# Altium integrated library TI Power Management PCMCIA and USB.IntLib: 328 symbols (part 14 of 14)
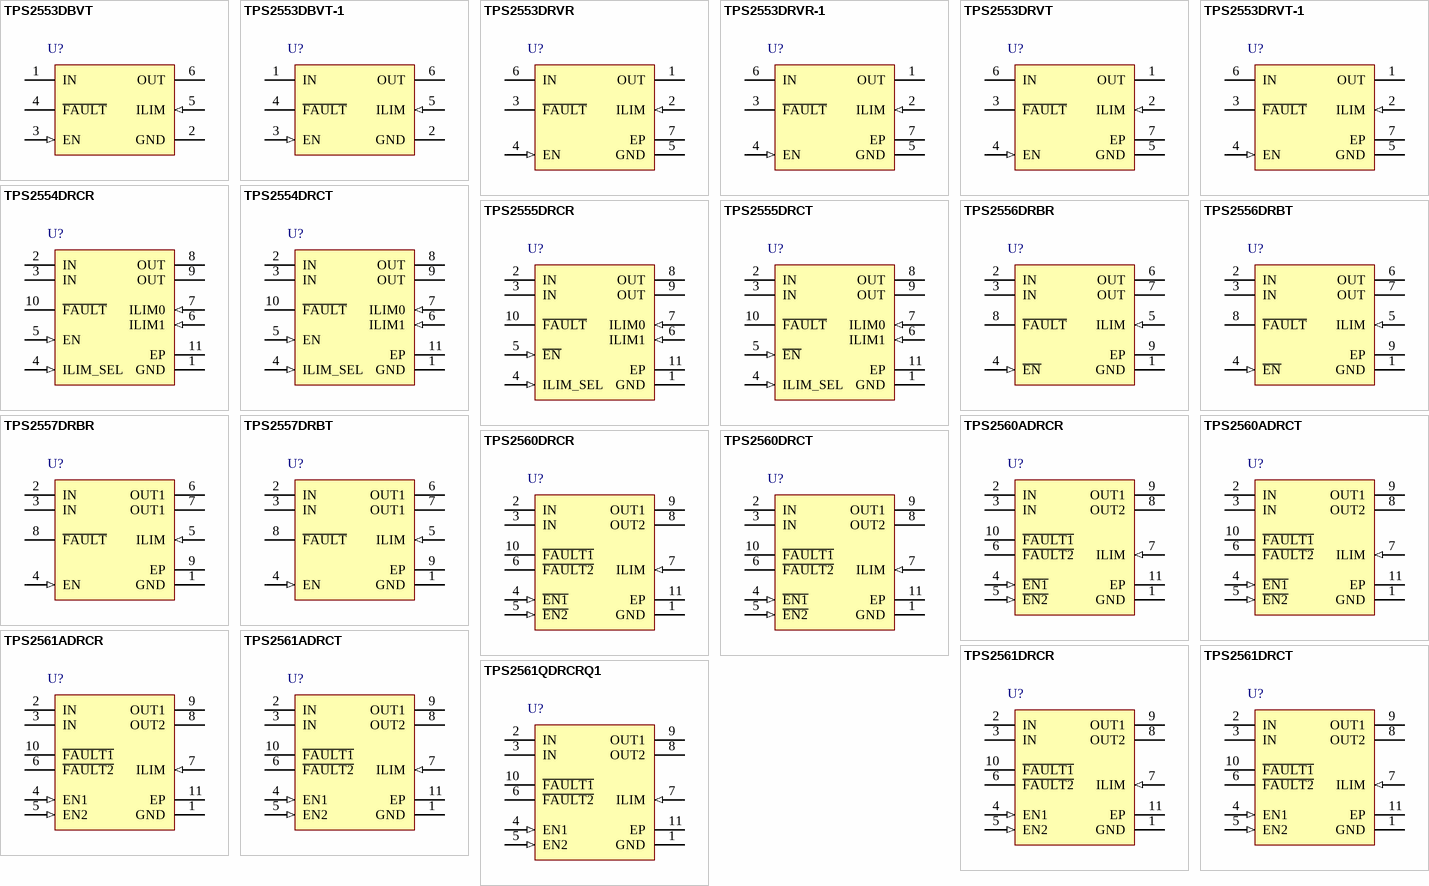
[diagram p23: symbols TPS2553DBVT to TPS2561QDRCRQ1]

## TPS2553DRVT
designator U?
Adjustable, Active High, Constant-Current, Current-Limited Power-Distribution Switch, 0.075 to 1.7 A Current Limit, -40 to 85 degC, 6-pin SON (DRV), Green (RoHS & no Sb/Br); Manufacturer: Texas Instruments; PartNumber: TPS2553DRVT; Continuous Current(Max)(A): 1.5; Current Limit Accuracy @ 1A: +/-7.5% (925mA min / 1075mA max); Number of Switches: 1; Rating: Catalog; rDS(on) per FET(Typ)(mOhms): 100/DRV, 85/DBV; Vin(Max)(V): 6.5; Vin(Min)(V): 2.5; DatasheetVersion: SLVS841E; PackageVersion: revE, Oct-2010; PackageReference: DRV6-1600X1000TP; PackageDescription: 6-Pin Plastic Small Outline No-Lead, 2 x 2 x 0.8 mm Body, 0.65 mm Pitch, Exposed Pad; Supplier 1: Digi-Key; Supplier Part Number 1: 296-23999-2-ND; Supplier 2: Digi-Key; Supplier Part Number 2: 296-23999-1-ND; Supplier 3: Digi-Key; Supplier Part Number 3: 296-23999-6-ND; Supplier 4: Farnell; Supplier Part Number 4: 1694427; Supplier 5: Newark; Supplier Part Number 5: 40P3872; Supplier 6: Mouser; Supplier Part Number 6: 595-TPS2553DRVT; Current Limit Topology: Constant-Current; Current Limit(A): 0.075 to 1.7; Eco-Plan: Green (RoHS & no Sb/Br); Enable: Active High; Mounting Technology: Surface Mount; ComponentLink1Description: Datasheet; ComponentLink1URL: http://www.ti.com/general/docs/lit/getliterature.tsp?genericPartNumber=TPS2553&fileType=pdf
footprint DRV6-1600X1000TP (SON, 6-Leads, Body 2x2mm, Pitch 0.65mm, Thermal Pad 1.6x1mm, TI Recommended)
pins: 1 OUT (power) "Power-switch output", 2 ILIM (in) "External resistor used to set current-limit threshold; recommended 15 k ohm =< RILIM =< 232 k ohm.", 3 ~{FAULT} (hiz) "Active-low open-drain output, asserted during overcurrent, overtemperature, or reverse-voltage conditions.", 4 EN (in) "Enable input, logic high turns on power switch", 5 GND (power) "Ground connection; connect externally to PowerPAD", 6 IN (power) "Input voltage; connect a 0.1 uF or greater ceramic capacitor from IN to GND as close to the IC as possible.", 7 EP (power) "Internally connected to GND; used to heat-sink the part to the circuit board traces. Connect PowerPAD to GND pin externally."

## TPS2553DRVT-1
designator U?
Adjustable, Active High, Latch-off, Current-Limited Power-Distribution Switch, 0.075 to 1.7 A Current Limit, -40 to 85 degC, 6-pin SON (DRV), Green (RoHS & no Sb/Br); Manufacturer: Texas Instruments; PartNumber: TPS2553DRVT-1; Continuous Current(Max)(A): 1.5; Current Limit Accuracy @ 1A: +/-7.5% (925mA min / 1075mA max); Number of Switches: 1; Rating: Catalog; rDS(on) per FET(Typ)(mOhms): 100/DRV, 85/DBV; Vin(Max)(V): 6.5; Vin(Min)(V): 2.5; DatasheetVersion: SLVS841E; PackageVersion: revE, Oct-2010; PackageReference: DRV6-1600X1000TP; PackageDescription: 6-Pin Plastic Small Outline No-Lead, 2 x 2 x 0.8 mm Body, 0.65 mm Pitch, Exposed Pad; Supplier 1: Digi-Key; Supplier Part Number 1: 296-24000-2-ND; Supplier 2: Digi-Key; Supplier Part Number 2: 296-24000-1-ND; Supplier 3: Digi-Key; Supplier Part Number 3: 296-24000-6-ND; Supplier 4: Newark; Supplier Part Number 4: 40P3873; Supplier 5: Mouser; Supplier Part Number 5: 595-TPS2553DRVT-1; Current Limit Topology: Latch-off; Current Limit(A): 0.075 to 1.7; Eco-Plan: Green (RoHS & no Sb/Br); Enable: Active High; Mounting Technology: Surface Mount; ComponentLink1Description: Datasheet; ComponentLink1URL: http://www.ti.com/general/docs/lit/getliterature.tsp?genericPartNumber=TPS2553-1&fileType=pdf
footprint DRV6-1600X1000TP (SON, 6-Leads, Body 2x2mm, Pitch 0.65mm, Thermal Pad 1.6x1mm, TI Recommended)
pins: 1 OUT (power) "Power-switch output", 2 ILIM (in) "External resistor used to set current-limit threshold; recommended 15 k ohm =< RILIM =< 232 k ohm.", 3 ~{FAULT} (hiz) "Active-low open-drain output, asserted during overcurrent, overtemperature, or reverse-voltage conditions.", 4 EN (in) "Enable input, logic high turns on power switch", 5 GND (power) "Ground connection; connect externally to PowerPAD", 6 IN (power) "Input voltage; connect a 0.1 uF or greater ceramic capacitor from IN to GND as close to the IC as possible.", 7 EP (power) "Internally connected to GND; used to heat-sink the part to the circuit board traces. Connect PowerPAD to GND pin externally."

## TPS2554DRCR
designator U?
Precision Adjustable, Current-Limited Power Distribution Switch, 0.25 to 2.7 A Current Limit, -40 to 85 degC, 10-pin SON (DRC), Green (RoHS & no Sb/Br); Manufacturer: Texas Instruments; PartNumber: TPS2554DRCR; Continuous Current(Max)(A): 2.5; Current Limit Accuracy @ 1A: ±10%; Current Limit Topology: Constant-Current; Enable: Active High; Number of Switches: 1; Rating: Catalog; rDS(on) per FET(Typ)(mOhms): 73; Vin(Max)(V): 5.5; Vin(Min)(V): 4.5; DatasheetVersion: SLVSAM0; PackageVersion: revL, Sep-2011; PackageReference: DRC10-2400X1650TP; PackageDescription: 10-Pin Plastic Small Outline No-Lead, 3 x 3 x 1 mm Body, 0.5 mm Pitch, Exposed Pad; Supplier 1: Digi-Key; Supplier Part Number 1: TPS2554DRCR-ND; Supplier 2: Newark; Supplier Part Number 2: 52T8781; Supplier 3: Mouser; Supplier Part Number 3: 595-TPS2554DRCR; Current Limit(A): 0.25 to 2.7; Eco-Plan: Green (RoHS & no Sb/Br); Mounting Technology: Surface Mount; ComponentLink1Description: Datasheet; ComponentLink1URL: http://www.ti.com/general/docs/lit/getliterature.tsp?genericPartNumber=TPS2554&fileType=pdf
footprint DRC10-2400X1650TP (SON, 10-Leads, Body 3x3mm, Pitch 0.5mm, Thermal Pad 2.4x1.65mm, TI Recommended)
pins: 1 GND (power) "Ground connection; connect externally to PowerPAD.", 2 IN (power) "Input voltage; connect a 100-nF, or greater, ceramic capacitor from IN to GND as close to the device as possible.", 3 IN (power) "Input voltage; connect a 100-nF, or greater, ceramic capacitor from IN to GND as close to the device as possible.", 4 ILIM_SEL (in) "Logic-level input that selects between ILIM0 and ILIM1 current-limit threshold setting", 5 EN (in) "Enable input, logic high turns on power switch (TPS2554).", 6 ILIM1 (in) "External resistor used to set current-limit threshold when ILIM_SEL =HI", 7 ILIM0 (in) "External resistor used to set current-limit threshold when ILIM_SEL =LO", 8 OUT (power) "Power-switch output", 9 OUT (power) "Power-switch output", 10 ~{FAULT} (oc) "Active-low, open-drain output, asserted during overcurrent or over-temperature conditions.", 11 EP (power) "Internally connected to GND; used to heat-sink the device to the circuit board traces. Connect PowerPAD to GND lin externally."

## TPS2554DRCT
designator U?
Precision Adjustable, Current-Limited Power Distribution Switch, 0.25 to 2.7 A Current Limit, -40 to 85 degC, 10-pin SON (DRC), Green (RoHS & no Sb/Br); Manufacturer: Texas Instruments; PartNumber: TPS2554DRCT; Continuous Current(Max)(A): 2.5; Current Limit Accuracy @ 1A: ±10%; Current Limit Topology: Constant-Current; Enable: Active High; Number of Switches: 1; Rating: Catalog; rDS(on) per FET(Typ)(mOhms): 73; Vin(Max)(V): 5.5; Vin(Min)(V): 4.5; DatasheetVersion: SLVSAM0; PackageVersion: revL, Sep-2011; PackageReference: DRC10-2400X1650TP; PackageDescription: 10-Pin Plastic Small Outline No-Lead, 3 x 3 x 1 mm Body, 0.5 mm Pitch, Exposed Pad; Supplier 1: Digi-Key; Supplier Part Number 1: 296-29074-2-ND; Supplier 2: Digi-Key; Supplier Part Number 2: 296-29074-1-ND; Supplier 3: Digi-Key; Supplier Part Number 3: 296-29074-6-ND; Supplier 4: Mouser; Supplier Part Number 4: 595-TPS2554DRCT; Current Limit(A): 0.25 to 2.7; Eco-Plan: Green (RoHS & no Sb/Br); Mounting Technology: Surface Mount; ComponentLink1Description: Datasheet; ComponentLink1URL: http://www.ti.com/general/docs/lit/getliterature.tsp?genericPartNumber=TPS2554&fileType=pdf
footprint DRC10-2400X1650TP (SON, 10-Leads, Body 3x3mm, Pitch 0.5mm, Thermal Pad 2.4x1.65mm, TI Recommended)
pins: 1 GND (power) "Ground connection; connect externally to PowerPAD.", 2 IN (power) "Input voltage; connect a 100-nF, or greater, ceramic capacitor from IN to GND as close to the device as possible.", 3 IN (power) "Input voltage; connect a 100-nF, or greater, ceramic capacitor from IN to GND as close to the device as possible.", 4 ILIM_SEL (in) "Logic-level input that selects between ILIM0 and ILIM1 current-limit threshold setting", 5 EN (in) "Enable input, logic high turns on power switch (TPS2554).", 6 ILIM1 (in) "External resistor used to set current-limit threshold when ILIM_SEL =HI", 7 ILIM0 (in) "External resistor used to set current-limit threshold when ILIM_SEL =LO", 8 OUT (power) "Power-switch output", 9 OUT (power) "Power-switch output", 10 ~{FAULT} (oc) "Active-low, open-drain output, asserted during overcurrent or over-temperature conditions.", 11 EP (power) "Internally connected to GND; used to heat-sink the device to the circuit board traces. Connect PowerPAD to GND lin externally."

## TPS2555DRCR
designator U?
Precision Adjustable, Current-Limited Power Distribution Switch, 0.25 to 2.7 A Current Limit, -40 to 85 degC, 10-pin SON (DRC), Green (RoHS & no Sb/Br); Manufacturer: Texas Instruments; PartNumber: TPS2555DRCR; Continuous Current(Max)(A): 2.5; Current Limit Accuracy @ 1A: ±10%; Current Limit Topology: Constant-Current; Enable: Active Low; Number of Switches: 1; Rating: Catalog; rDS(on) per FET(Typ)(mOhms): 73; Vin(Max)(V): 5.5; Vin(Min)(V): 4.5; DatasheetVersion: SLVSAM0; PackageVersion: revL, Sep-2011; PackageReference: DRC10-2400X1650TP; PackageDescription: 10-Pin Plastic Small Outline No-Lead, 3 x 3 x 1 mm Body, 0.5 mm Pitch, Exposed Pad; Supplier 1: Digi-Key; Supplier Part Number 1: TPS2555DRCR-ND; Supplier 2: Newark; Supplier Part Number 2: 52T8784; Supplier 3: Mouser; Supplier Part Number 3: 595-TPS2555DRCR; Current Limit(A): 0.25 to 2.7; Eco-Plan: Green (RoHS & no Sb/Br); Mounting Technology: Surface Mount; ComponentLink1Description: Datasheet; ComponentLink1URL: http://www.ti.com/general/docs/lit/getliterature.tsp?genericPartNumber=TPS2555&fileType=pdf
footprint DRC10-2400X1650TP (SON, 10-Leads, Body 3x3mm, Pitch 0.5mm, Thermal Pad 2.4x1.65mm, TI Recommended)
pins: 1 GND (power) "Ground connection; connect externally to PowerPAD.", 2 IN (power) "?Input voltage; connect a 100-nF, or greater, ceramic capacitor from IN to GND as close to the device as possible.", 3 IN (power) "?Input voltage; connect a 100-nF, or greater, ceramic capacitor from IN to GND as close to the device as possible.", 4 ILIM_SEL (in) "?Logic-level input that selects between ILIM0 and ILIM1 current-limit threshold setting", 5 ~{EN} (in) "Enable input, logic low turns on power switch", 6 ILIM1 (in) "?External resistor used to set current-limit threshold when ILIM_SEL = HI", 7 ILIM0 (in) "?External resistor used to set current-limit threshold when ILIM_SEL = LO", 8 OUT (power) "Power-switch output", 9 OUT (power) "Power-switch output", 10 ~{FAULT} (oc) "?Active-low, open-drain output, asserted during overcurrent or over-temperature conditions.", 11 EP (power) "Internally connected to GND; used to heat-sink the part to the circuit board traces. Connect PowerPAD to GND pin externally."

## TPS2555DRCT
designator U?
Precision Adjustable, Current-Limited Power Distribution Switch, 0.25 to 2.7 A Current Limit, -40 to 85 degC, 10-pin SON (DRC), Green (RoHS & no Sb/Br); Manufacturer: Texas Instruments; PartNumber: TPS2555DRCT; Continuous Current(Max)(A): 2.5; Current Limit Accuracy @ 1A: ±10%; Current Limit Topology: Constant-Current; Enable: Active Low; Number of Switches: 1; Rating: Catalog; rDS(on) per FET(Typ)(mOhms): 73; Vin(Max)(V): 5.5; Vin(Min)(V): 4.5; DatasheetVersion: SLVSAM0; PackageVersion: revL, Sep-2011; PackageReference: DRC10-2400X1650TP; PackageDescription: 10-Pin Plastic Small Outline No-Lead, 3 x 3 x 1 mm Body, 0.5 mm Pitch, Exposed Pad; Supplier 1: Digi-Key; Supplier Part Number 1: TPS2555DRCT-ND; Supplier 2: Mouser; Supplier Part Number 2: 595-TPS2555DRCT; Current Limit(A): 0.25 to 2.7; Eco-Plan: Green (RoHS & no Sb/Br); Mounting Technology: Surface Mount; ComponentLink1Description: Datasheet; ComponentLink1URL: http://www.ti.com/general/docs/lit/getliterature.tsp?genericPartNumber=TPS2555&fileType=pdf
footprint DRC10-2400X1650TP (SON, 10-Leads, Body 3x3mm, Pitch 0.5mm, Thermal Pad 2.4x1.65mm, TI Recommended)
pins: 1 GND (power) "Ground connection; connect externally to PowerPAD.", 2 IN (power) "?Input voltage; connect a 100-nF, or greater, ceramic capacitor from IN to GND as close to the device as possible.", 3 IN (power) "?Input voltage; connect a 100-nF, or greater, ceramic capacitor from IN to GND as close to the device as possible.", 4 ILIM_SEL (in) "?Logic-level input that selects between ILIM0 and ILIM1 current-limit threshold setting", 5 ~{EN} (in) "Enable input, logic low turns on power switch", 6 ILIM1 (in) "?External resistor used to set current-limit threshold when ILIM_SEL = HI", 7 ILIM0 (in) "?External resistor used to set current-limit threshold when ILIM_SEL = LO", 8 OUT (power) "Power-switch output", 9 OUT (power) "Power-switch output", 10 ~{FAULT} (oc) "?Active-low, open-drain output, asserted during overcurrent or over-temperature conditions.", 11 EP (power) "Internally connected to GND; used to heat-sink the part to the circuit board traces. Connect PowerPAD to GND pin externally."

## TPS2556DRBR
designator U?
Precision Adjustable Current-Limited Power-Distribution Switch, 0.5 to 5.0 A Current Limit, -40 to 85 degC, 8-pin SON (DRB), Green (RoHS & no Sb/Br); Manufacturer: Texas Instruments; PartNumber: TPS2556DRBR; Continuous Current(Max)(A): 5; Current Limit Accuracy @ 1A: +/-7.0% (4100mA min / 4715mA max); Current Limit Topology: Constant-Current; Enable: Active Low; Number of Switches: 1; Rating: Catalog; rDS(on) per FET(Typ)(mOhms): 22; Vin(Max)(V): 6.5; Vin(Min)(V): 2.5; DatasheetVersion: SLVS931A; PackageVersion: revK, Jun-2012; PackageReference: DRB8-2400X1650TP; PackageDescription: 8-Pin Plastic Small Outline No-Lead, 3 x 3 x 1 mm Body, 0.65 mm Pitch, Exposed Pad; Supplier 1: Digi-Key; Supplier Part Number 1: TPS2556DRBR-ND; Supplier 2: Newark; Supplier Part Number 2: 55R7562; Supplier 3: Mouser; Supplier Part Number 3: 595-TPS2556DRBR; Current Limit(A): 0.5 to 5.0; Eco-Plan: Green (RoHS & no Sb/Br); Mounting Technology: Surface Mount; ComponentLink1Description: Datasheet; ComponentLink1URL: http://www.ti.com/general/docs/lit/getliterature.tsp?genericPartNumber=TPS2556&fileType=pdf
footprint DRB8-2400X1650TP (SON, 8-Leads, Body 3x3mm, Pitch 0.65mm, Thermal Pad 2.4x1.65mm, TI Recommended)
pins: 1 GND (power) "Ground connection; connect externally to PowerPAD", 2 IN (power) "Input voltage; connect a 0.1 uF or greater ceramic capacitor from IN to GND as close to the IC as possible.", 3 IN (power) "Input voltage; connect a 0.1 uF or greater ceramic capacitor from IN to GND as close to the IC as possible.", 4 ~{EN} (in) "Enable input, logic low turns on power switch", 5 ILIM (in) "External resistor used to set current-limit threshold; recommended 20 k ohm =< RILIM =< 187 k ohm.", 6 OUT (power) "Power-switch output", 7 OUT (power) "Power-switch output", 8 ~{FAULT} (hiz) "Active-low open-drain output, asserted during overcurrent or overtemperature conditions", 9 EP (power) "Internally connected to GND; used to heat-sink the part to the circuit board traces. Connect PowerPAD to GND pin externally."

## TPS2556DRBT
designator U?
Precision Adjustable Current-Limited Power-Distribution Switch, 0.5 to 5.0 A Current Limit, -40 to 85 degC, 8-pin SON (DRB), Green (RoHS & no Sb/Br); Manufacturer: Texas Instruments; PartNumber: TPS2556DRBT; Continuous Current(Max)(A): 5; Current Limit Accuracy @ 1A: +/-7.0% (4100mA min / 4715mA max); Current Limit Topology: Constant-Current; Enable: Active Low; Number of Switches: 1; Rating: Catalog; rDS(on) per FET(Typ)(mOhms): 22; Vin(Max)(V): 6.5; Vin(Min)(V): 2.5; DatasheetVersion: SLVS931A; PackageVersion: revK, Jun-2012; PackageReference: DRB8-2400X1650TP; PackageDescription: 8-Pin Plastic Small Outline No-Lead, 3 x 3 x 1 mm Body, 0.65 mm Pitch, Exposed Pad; Supplier 1: Digi-Key; Supplier Part Number 1: 296-25431-2-ND; Supplier 2: Digi-Key; Supplier Part Number 2: 296-25431-1-ND; Supplier 3: Digi-Key; Supplier Part Number 3: 296-25431-6-ND; Supplier 4: Farnell; Supplier Part Number 4: 1782841; Supplier 5: Newark; Supplier Part Number 5: 51R6142; Supplier 6: Mouser; Supplier Part Number 6: 595-TPS2556DRBT; Current Limit(A): 0.5 to 5.0; Eco-Plan: Green (RoHS & no Sb/Br); Mounting Technology: Surface Mount; ComponentLink1Description: Datasheet; ComponentLink1URL: http://www.ti.com/general/docs/lit/getliterature.tsp?genericPartNumber=TPS2556&fileType=pdf
footprint DRB8-2400X1650TP (SON, 8-Leads, Body 3x3mm, Pitch 0.65mm, Thermal Pad 2.4x1.65mm, TI Recommended)
pins: 1 GND (power) "Ground connection; connect externally to PowerPAD", 2 IN (power) "Input voltage; connect a 0.1 uF or greater ceramic capacitor from IN to GND as close to the IC as possible.", 3 IN (power) "Input voltage; connect a 0.1 uF or greater ceramic capacitor from IN to GND as close to the IC as possible.", 4 ~{EN} (in) "Enable input, logic low turns on power switch", 5 ILIM (in) "External resistor used to set current-limit threshold; recommended 20 k ohm =< RILIM =< 187 k ohm.", 6 OUT (power) "Power-switch output", 7 OUT (power) "Power-switch output", 8 ~{FAULT} (hiz) "Active-low open-drain output, asserted during overcurrent or overtemperature conditions", 9 EP (power) "Internally connected to GND; used to heat-sink the part to the circuit board traces. Connect PowerPAD to GND pin externally."

## TPS2557DRBR
designator U?
Precision Adjustable Current-Limited Power-Distribution Switch, 0.5 to 5.0 A Current Limit, -40 to 85 degC, 8-pin SON (DRB), Green (RoHS & no Sb/Br); Manufacturer: Texas Instruments; PartNumber: TPS2557DRBR; Continuous Current(Max)(A): 5; Current Limit Accuracy @ 1A: +/-7.0% (4100mA min / 4715mA max); Current Limit Topology: Constant-Current; Enable: Active High; Number of Switches: 1; Rating: Catalog; rDS(on) per FET(Typ)(mOhms): 22; Vin(Max)(V): 6.5; Vin(Min)(V): 2.5; DatasheetVersion: SLVS931A; PackageVersion: revK, Jun-2012; PackageReference: DRB8-2400X1650TP; PackageDescription: 8-Pin Plastic Small Outline No-Lead, 3 x 3 x 1 mm Body, 0.65 mm Pitch, Exposed Pad; Supplier 1: Digi-Key; Supplier Part Number 1: TPS2557DRBR-ND; Supplier 2: Newark; Supplier Part Number 2: 55R7563; Supplier 3: Mouser; Supplier Part Number 3: 595-TPS2557DRBR; Current Limit(A): 0.5 to 5.0; Eco-Plan: Green (RoHS & no Sb/Br); Mounting Technology: Surface Mount; ComponentLink1Description: Datasheet; ComponentLink1URL: http://www.ti.com/general/docs/lit/getliterature.tsp?genericPartNumber=TPS2557&fileType=pdf
footprint DRB8-2400X1650TP (SON, 8-Leads, Body 3x3mm, Pitch 0.65mm, Thermal Pad 2.4x1.65mm, TI Recommended)
pins: 1 GND (power) "Ground connection; connect externally to PowerPAD", 2 IN (power) "Input voltage; connect a 0.1 uF or greater ceramic capacitor from IN to GND as close to the IC as possible.", 3 IN (power) "Input voltage; connect a 0.1 uF or greater ceramic capacitor from IN to GND as close to the IC as possible.", 4 EN (in) "Enable input, logic high turns on power switch", 5 ILIM (in) "External resistor used to set current-limit threshold; recommended 20 k ohm =< RILIM =< 187 k ohm", 6 OUT1 (power) "Power-switch output", 7 OUT1 (power) "Power-switch output", 8 ~{FAULT} (hiz) "Active-low open-drain output, asserted during overcurrent or overtemperature conditions.", 9 EP (power) "Internally connected to GND; used to heat-sink the part to the circuit board traces. Connect PowerPAD to GND pin externally."

## TPS2557DRBT
designator U?
Precision Adjustable Current-Limited Power-Distribution Switch, 0.5 to 5.0 A Current Limit, -40 to 85 degC, 8-pin SON (DRB), Green (RoHS & no Sb/Br); Manufacturer: Texas Instruments; PartNumber: TPS2557DRBT; Continuous Current(Max)(A): 5; Current Limit Accuracy @ 1A: +/-7.0% (4100mA min / 4715mA max); Current Limit Topology: Constant-Current; Enable: Active High; Number of Switches: 1; Rating: Catalog; rDS(on) per FET(Typ)(mOhms): 22; Vin(Max)(V): 6.5; Vin(Min)(V): 2.5; DatasheetVersion: SLVS931A; PackageVersion: revK, Jun-2012; PackageReference: DRB8-2400X1650TP; PackageDescription: 8-Pin Plastic Small Outline No-Lead, 3 x 3 x 1 mm Body, 0.65 mm Pitch, Exposed Pad; Supplier 1: Digi-Key; Supplier Part Number 1: 296-25432-2-ND; Supplier 2: Digi-Key; Supplier Part Number 2: 296-25432-1-ND; Supplier 3: Digi-Key; Supplier Part Number 3: 296-25432-6-ND; Supplier 4: Farnell; Supplier Part Number 4: 1782842; Supplier 5: Newark; Supplier Part Number 5: 51R6143; Supplier 6: Mouser; Supplier Part Number 6: 595-TPS2557DRBT; Current Limit(A): 0.5 to 5.0; Eco-Plan: Green (RoHS & no Sb/Br); Mounting Technology: Surface Mount; ComponentLink1Description: Datasheet; ComponentLink1URL: http://www.ti.com/general/docs/lit/getliterature.tsp?genericPartNumber=TPS2557&fileType=pdf
footprint DRB8-2400X1650TP (SON, 8-Leads, Body 3x3mm, Pitch 0.65mm, Thermal Pad 2.4x1.65mm, TI Recommended)
pins: 1 GND (power) "Ground connection; connect externally to PowerPAD", 2 IN (power) "Input voltage; connect a 0.1 uF or greater ceramic capacitor from IN to GND as close to the IC as possible.", 3 IN (power) "Input voltage; connect a 0.1 uF or greater ceramic capacitor from IN to GND as close to the IC as possible.", 4 EN (in) "Enable input, logic high turns on power switch", 5 ILIM (in) "External resistor used to set current-limit threshold; recommended 20 k ohm =< RILIM =< 187 k ohm", 6 OUT1 (power) "Power-switch output", 7 OUT1 (power) "Power-switch output", 8 ~{FAULT} (hiz) "Active-low open-drain output, asserted during overcurrent or overtemperature conditions.", 9 EP (power) "Internally connected to GND; used to heat-sink the part to the circuit board traces. Connect PowerPAD to GND pin externally."

## TPS2560ADRCR
designator U?
Dual Channel Precision Adjustable Current-Limited Power Switch, 0.25 to 2.5 A Current Limit, -40 to 85 degC, 10-pin SON (DRC), Green (RoHS & no Sb/Br); Manufacturer: Texas Instruments; PartNumber: TPS2560ADRCR; Continuous Current(Max)(A): 1.5; Current Limit Accuracy @ 1A: +/- 25%; Current Limit Topology: Constant-Current; Current Limit(A): 1.72 to 2.86; Enable: Active High; Number of Switches: 2; Rating: Catalog; rDS(on) per FET(Typ)(mOhms): 70; Vin(Max)(V): 5.5; Vin(Min)(V): 4.5; DatasheetVersion: SLVSB28; PackageVersion: revL, Sep-2011; PackageReference: DRC10-2400X1650TP; PackageDescription: 10-Pin Plastic Small Outline No-Lead, 3 x 3 x 1 mm Body, 0.5 mm Pitch, Exposed Pad; Supplier 1: Digi-Key; Supplier Part Number 1: TPS2560ADRCR-ND; Supplier 2: Newark; Supplier Part Number 2: 94T1852; Supplier 3: Mouser; Supplier Part Number 3: 595-TPS2560ADRCR; Eco-Plan: Green (RoHS & no Sb/Br); Mounting Technology: Surface Mount; ComponentLink1Description: Datasheet; ComponentLink1URL: http://www.ti.com/general/docs/lit/getliterature.tsp?genericPartNumber=TPS2560A&fileType=pdf
footprint DRC10-2400X1650TP (SON, 10-Leads, Body 3x3mm, Pitch 0.5mm, Thermal Pad 2.4x1.65mm, TI Recommended)
pins: 1 GND (power) "Ground connection; connect externally to PowerPAD", 2 IN (power) "Input voltage; connect a 0.1 uF or greater ceramic capacitor from IN to GND as close to the IC as possible.", 3 IN (power) "Input voltage; connect a 0.1 uF or greater ceramic capacitor from IN to GND as close to the IC as possible.", 4 ~{EN1} (in) "Enable input, logic low turns on channel one power switch", 5 ~{EN2} (in) "Enable input, logic low turns on channel two power switch", 6 ~{FAULT2} (hiz) "Active-low open-drain output, asserted during overcurrent or overtemperature condition on channel two", 7 ILIM (in) "External resistor used to set current-limit threshold; recommended 20 kohm =< RILIM =< 187 kohm", 8 OUT2 (power) "Power-switch output for channel two", 9 OUT1 (power) "Power-switch output for channel one", 10 ~{FAULT1} (hiz) "Active-low open-drain output, asserted during overcurrent or overtemperature condition on channel one.", 11 EP (power) "Internally connected to GND; used to heat-sink the part to the circuit board traces. Connect PowerPAD to GND pin externally."

## TPS2560ADRCT
designator U?
Dual Channel Precision Adjustable Current-Limited Power Switch, 0.25 to 2.5 A Current Limit, -40 to 85 degC, 10-pin SON (DRC), Green (RoHS & no Sb/Br); Manufacturer: Texas Instruments; PartNumber: TPS2560ADRCT; Continuous Current(Max)(A): 2.5; Current Limit Accuracy @ 1A: 2.1A Min / 2.5A Max Setting (Including Resistor); Current Limit Topology: Constant-Current; Current Limit(A): 0.25 - 2.5; Enable: Active Low; Number of Switches: 2; Rating: Catalog; rDS(on) per FET(Typ)(mOhms): 45; Vin(Max)(V): 6.5; DatasheetVersion: SLVSB28; PackageVersion: revL, Sep-2011; PackageReference: DRC10-2400X1650TP; PackageDescription: 10-Pin Plastic Small Outline No-Lead, 3 x 3 x 1 mm Body, 0.5 mm Pitch, Exposed Pad; Supplier 1: Digi-Key; Supplier Part Number 1: TPS2560ADRCT-ND; Supplier 2: Newark; Supplier Part Number 2: 94T1853; Supplier 3: Mouser; Supplier Part Number 3: 595-TPS2560ADRCT; Eco-Plan: Green (RoHS & no Sb/Br); Vin(Min)(V): 2.5; Mounting Technology: Surface Mount; ComponentLink1Description: Datasheet; ComponentLink1URL: http://www.ti.com/general/docs/lit/getliterature.tsp?genericPartNumber=TPS2560A&fileType=pdf
footprint DRC10-2400X1650TP (SON, 10-Leads, Body 3x3mm, Pitch 0.5mm, Thermal Pad 2.4x1.65mm, TI Recommended)
pins: 1 GND (power) "Ground connection; connect externally to PowerPAD", 2 IN (power) "Input voltage; connect a 0.1 uF or greater ceramic capacitor from IN to GND as close to the IC as possible.", 3 IN (power) "Input voltage; connect a 0.1 uF or greater ceramic capacitor from IN to GND as close to the IC as possible.", 4 ~{EN1} (in) "Enable input, logic low turns on channel one power switch", 5 ~{EN2} (in) "Enable input, logic low turns on channel two power switch", 6 ~{FAULT2} (hiz) "Active-low open-drain output, asserted during overcurrent or overtemperature condition on channel two", 7 ILIM (in) "External resistor used to set current-limit threshold; recommended 20 kohm =< RILIM =< 187 kohm", 8 OUT2 (power) "Power-switch output for channel two", 9 OUT1 (power) "Power-switch output for channel one", 10 ~{FAULT1} (hiz) "Active-low open-drain output, asserted during overcurrent or overtemperature condition on channel one.", 11 EP (power) "Internally connected to GND; used to heat-sink the part to the circuit board traces. Connect PowerPAD to GND pin externally."

## TPS2560DRCR
designator U?
Dual Channel Precision Adjustable Current-Limited Power Switch, 0.25 to 2.5 A Current Limit, -40 to 85 degC, 10-pin SON (DRC), Green (RoHS & no Sb/Br); Manufacturer: Texas Instruments; PartNumber: TPS2560DRCR; Continuous Current(Max)(A): 2.5; Current Limit Accuracy @ 1A: +/-7.5% (2590mA min / 3005mA max); Current Limit Topology: Constant-Current; Current Limit(A): 0.25 - 2.5; Enable: Active Low; Number of Switches: 2; Rating: Catalog; rDS(on) per FET(Typ)(mOhms): 45; Vin(Max)(V): 6.5; DatasheetVersion: SLVS930A; PackageVersion: revL, Sep-2011; PackageReference: DRC10-2400X1650TP; PackageDescription: 10-Pin Plastic Small Outline No-Lead, 3 x 3 x 1 mm Body, 0.5 mm Pitch, Exposed Pad; Supplier 1: Digi-Key; Supplier Part Number 1: TPS2560DRCR-ND; Supplier 2: Newark; Supplier Part Number 2: 64R0736; Supplier 3: Mouser; Supplier Part Number 3: 595-TPS2560DRCR; Eco-Plan: Green (RoHS & no Sb/Br); Vin(Min)(V): 2.5; Mounting Technology: Surface Mount; ComponentLink1Description: Datasheet; ComponentLink1URL: http://www.ti.com/general/docs/lit/getliterature.tsp?genericPartNumber=TPS2560&fileType=pdf
footprint DRC10-2400X1650TP (SON, 10-Leads, Body 3x3mm, Pitch 0.5mm, Thermal Pad 2.4x1.65mm, TI Recommended)
pins: 1 GND (power) "Ground connection; connect externally to PowerPAD", 2 IN (power) "Input voltage; connect a 0.1 uF or greater ceramic capacitor from IN to GND as close to the IC as possible.", 3 IN (power) "Input voltage; connect a 0.1 uF or greater ceramic capacitor from IN to GND as close to the IC as possible.", 4 ~{EN1} (in) "Enable input,logic low turns on channel one power switch.", 5 ~{EN2} (in) "Enable input,logic low turns on channel two power switch.", 6 ~{FAULT2} (hiz) "Active-low open-drain output, asserted during overcurrent or overtemperature condition on channel two", 7 ILIM (in) "External resistor used to set current-limit threshold; recommended 20 k ohm =< RILIM =< 187 k ohm.", 8 OUT2 (power) "Power-switch output for channel two", 9 OUT1 (power) "Power-switch output for channel one", 10 ~{FAULT1} (hiz) "Active-low open-drain output, asserted during overcurrent or overtemperature condition on channel one.", 11 EP (power) "Inernally connected to GND; used to heat-sink the part to the circuit board traces. Connect PowerPAD to GND pin externally."

## TPS2560DRCT
designator U?
Dual Channel Precision Adjustable Current-Limited Power Switch, 0.25 to 2.5 A Current Limit, -40 to 85 degC, 10-pin SON (DRC), Green (RoHS & no Sb/Br); Manufacturer: Texas Instruments; PartNumber: TPS2560DRCT; Continuous Current(Max)(A): 2.5; Current Limit Accuracy @ 1A: +/-7.5% (2590mA min / 3005mA max); Current Limit Topology: Constant-Current; Current Limit(A): 0.25 - 2.5; Enable: Active Low; Number of Switches: 2; Rating: Catalog; rDS(on) per FET(Typ)(mOhms): 45; Vin(Max)(V): 6.5; DatasheetVersion: SLVS930A; PackageVersion: revL, Sep-2011; PackageReference: DRC10-2400X1650TP; PackageDescription: 10-Pin Plastic Small Outline No-Lead, 3 x 3 x 1 mm Body, 0.5 mm Pitch, Exposed Pad; Supplier 1: Digi-Key; Supplier Part Number 1: 296-25547-2-ND; Supplier 2: Digi-Key; Supplier Part Number 2: 296-25547-1-ND; Supplier 3: Digi-Key; Supplier Part Number 3: 296-25547-6-ND; Supplier 4: Newark; Supplier Part Number 4: 60R2437; Supplier 5: Mouser; Supplier Part Number 5: 595-TPS2560DRCT; Eco-Plan: Green (RoHS & no Sb/Br); Vin(Min)(V): 2.5; Mounting Technology: Surface Mount; ComponentLink1Description: Datasheet; ComponentLink1URL: http://www.ti.com/general/docs/lit/getliterature.tsp?genericPartNumber=TPS2560&fileType=pdf
footprint DRC10-2400X1650TP (SON, 10-Leads, Body 3x3mm, Pitch 0.5mm, Thermal Pad 2.4x1.65mm, TI Recommended)
pins: 1 GND (power) "Ground connection; connect externally to PowerPAD", 2 IN (power) "Input voltage; connect a 0.1 uF or greater ceramic capacitor from IN to GND as close to the IC as possible.", 3 IN (power) "Input voltage; connect a 0.1 uF or greater ceramic capacitor from IN to GND as close to the IC as possible.", 4 ~{EN1} (in) "Enable input,logic low turns on channel one power switch.", 5 ~{EN2} (in) "Enable input,logic low turns on channel two power switch.", 6 ~{FAULT2} (hiz) "Active-low open-drain output, asserted during overcurrent or overtemperature condition on channel two", 7 ILIM (in) "External resistor used to set current-limit threshold; recommended 20 k ohm =< RILIM =< 187 k ohm.", 8 OUT2 (power) "Power-switch output for channel two", 9 OUT1 (power) "Power-switch output for channel one", 10 ~{FAULT1} (hiz) "Active-low open-drain output, asserted during overcurrent or overtemperature condition on channel one.", 11 EP (power) "Inernally connected to GND; used to heat-sink the part to the circuit board traces. Connect PowerPAD to GND pin externally."

## TPS2561ADRCR
designator U?
Dual Channel Precision Adjustable Current-Limited Power Switch, 0.25 to 2.5 A Current Limit, -40 to 85 degC, 10-pin SON (DRC), Green (RoHS & no Sb/Br); Manufacturer: Texas Instruments; PartNumber: TPS2561ADRCR; Continuous Current(Max)(A): 2.5; Current Limit Accuracy @ 1A: 2.1A Min / 2.5A Max Setting (Including Resistor); Current Limit Topology: Constant-Current; Current Limit(A): 0.25 - 2.5; Enable: Active High; Number of Switches: 2; Rating: Catalog; rDS(on) per FET(Typ)(mOhms): 45; Vin(Max)(V): 6.5; DatasheetVersion: SLVSB28; PackageVersion: revL, Sep-2011; PackageReference: DRC10-2400X1650TP; PackageDescription: 10-Pin Plastic Small Outline No-Lead, 3 x 3 x 1 mm Body, 0.5 mm Pitch, Exposed Pad; Supplier 1: Digi-Key; Supplier Part Number 1: TPS2561ADRCR-ND; Supplier 2: Newark; Supplier Part Number 2: 94T1854; Supplier 3: Mouser; Supplier Part Number 3: 595-TPS2561ADRCR; Eco-Plan: Green (RoHS & no Sb/Br); Vin(Min)(V): 2.5; Mounting Technology: Surface Mount; ComponentLink1Description: Datasheet; ComponentLink1URL: http://www.ti.com/general/docs/lit/getliterature.tsp?genericPartNumber=TPS2561A&fileType=pdf
footprint DRC10-2400X1650TP (SON, 10-Leads, Body 3x3mm, Pitch 0.5mm, Thermal Pad 2.4x1.65mm, TI Recommended)
pins: 1 GND (power) "Ground connection; connect externally to PowerPAD", 2 IN (power) "Input voltage; connect a 0.1 uF or greater ceramic capacitor from IN to GND as close to the IC as possible.", 3 IN (power) "Input voltage; connect a 0.1 uF or greater ceramic capacitor from IN to GND as close to the IC as possible.", 4 EN1 (in) "Enable input, logic high turns on channel one power switch", 5 EN2 (in) "Enable input, logic high turns on channel two power switch", 6 ~{FAULT2} (hiz) "Active-low open-drain output, asserted during overcurrent or overtemperature condition on channel two", 7 ILIM (in) "External resistor used to set current-limit threshold; recommended 20 k ohm =< RILIM =< 187 k ohm.", 8 OUT2 (power) "Power-switch output for channel two", 9 OUT1 (power) "Power-switch output for channel one", 10 ~{FAULT1} (hiz) "Active-low open-drain output, asserted during overcurrent or overtemperature condition on channel one.", 11 EP (power) "Internally connected to GND;used to heat-sink the part to the circuit board traces. Connect PowerPAD to GND pin externally."

## TPS2561ADRCT
designator U?
Dual Channel Precision Adjustable Current-Limited Power Switch, 0.25 to 2.5 A Current Limit, -40 to 85 degC, 10-pin SON (DRC), Green (RoHS & no Sb/Br); Manufacturer: Texas Instruments; PartNumber: TPS2561ADRCT; Continuous Current(Max)(A): 2.5; Current Limit Accuracy @ 1A: 2.1A Min / 2.5A Max Setting (Including Resistor); Current Limit Topology: Constant-Current; Current Limit(A): 0.25 - 2.5; Enable: Active High; Number of Switches: 2; Rating: Catalog; rDS(on) per FET(Typ)(mOhms): 45; Vin(Max)(V): 6.5; DatasheetVersion: SLVSB28; PackageVersion: revL, Sep-2011; PackageReference: DRC10-2400X1650TP; PackageDescription: 10-Pin Plastic Small Outline No-Lead, 3 x 3 x 1 mm Body, 0.5 mm Pitch, Exposed Pad; Supplier 1: Digi-Key; Supplier Part Number 1: TPS2561ADRCT-ND; Supplier 2: Newark; Supplier Part Number 2: 94T1855; Supplier 3: Mouser; Supplier Part Number 3: 595-TPS2561ADRCT; Eco-Plan: Green (RoHS & no Sb/Br); Vin(Min)(V): 2.5; Mounting Technology: Surface Mount; ComponentLink1Description: Datasheet; ComponentLink1URL: http://www.ti.com/general/docs/lit/getliterature.tsp?genericPartNumber=TPS2561A&fileType=pdf
footprint DRC10-2400X1650TP (SON, 10-Leads, Body 3x3mm, Pitch 0.5mm, Thermal Pad 2.4x1.65mm, TI Recommended)
pins: 1 GND (power) "Ground connection; connect externally to PowerPAD", 2 IN (power) "Input voltage; connect a 0.1 uF or greater ceramic capacitor from IN to GND as close to the IC as possible.", 3 IN (power) "Input voltage; connect a 0.1 uF or greater ceramic capacitor from IN to GND as close to the IC as possible.", 4 EN1 (in) "Enable input, logic high turns on channel one power switch", 5 EN2 (in) "Enable input, logic high turns on channel two power switch", 6 ~{FAULT2} (hiz) "Active-low open-drain output, asserted during overcurrent or overtemperature condition on channel two", 7 ILIM (in) "External resistor used to set current-limit threshold; recommended 20 k ohm =< RILIM =< 187 k ohm.", 8 OUT2 (power) "Power-switch output for channel two", 9 OUT1 (power) "Power-switch output for channel one", 10 ~{FAULT1} (hiz) "Active-low open-drain output, asserted during overcurrent or overtemperature condition on channel one.", 11 EP (power) "Internally connected to GND;used to heat-sink the part to the circuit board traces. Connect PowerPAD to GND pin externally."

## TPS2561DRCR
designator U?
Dual Channel Precision Adjustable Current-Limited Power Switch, 0.25 to 2.5 A Current Limit, -40 to 85 degC, 10-pin SON (DRC), Green (RoHS & no Sb/Br); Manufacturer: Texas Instruments; PartNumber: TPS2561DRCR; Continuous Current(Max)(A): 2.5; Current Limit Accuracy @ 1A: +/-7.5% (2590mA min / 3005mA max); Current Limit Topology: Constant-Current; Current Limit(A): 0.25 - 2.5; Enable: Active High; Number of Switches: 2; Rating: Catalog; rDS(on) per FET(Typ)(mOhms): 45; Vin(Max)(V): 6.5; DatasheetVersion: SLVS930A; PackageVersion: revL, Sep-2011; PackageReference: DRC10-2400X1650TP; PackageDescription: 10-Pin Plastic Small Outline No-Lead, 3 x 3 x 1 mm Body, 0.5 mm Pitch, Exposed Pad; Supplier 1: Digi-Key; Supplier Part Number 1: TPS2561DRCR-ND; Supplier 2: Farnell; Supplier Part Number 2: 1815767; Supplier 3: Newark; Supplier Part Number 3: 64R0737; Supplier 4: Mouser; Supplier Part Number 4: 595-TPS2561DRCR; Eco-Plan: Green (RoHS & no Sb/Br); Vin(Min)(V): 2.5; Mounting Technology: Surface Mount; ComponentLink1Description: Datasheet; ComponentLink1URL: http://www.ti.com/general/docs/lit/getliterature.tsp?genericPartNumber=TPS2561&fileType=pdf
footprint DRC10-2400X1650TP (SON, 10-Leads, Body 3x3mm, Pitch 0.5mm, Thermal Pad 2.4x1.65mm, TI Recommended)
pins: 1 GND (power) "Ground connection; connect externally to PowerPAD", 2 IN (power) "Input voltage; connect a 0.1 uF or greater ceramic capacitor from IN to GND as close to the IC as possible.", 3 IN (power) "Input voltage; connect a 0.1 uF or greater ceramic capacitor from IN to GND as close to the IC as possible.", 4 EN1 (in) "Enable input, logic high turns on channel one power switch", 5 EN2 (in) "Enable input, logic high turns on channel two power switch", 6 ~{FAULT2} (hiz) "Active-low open-drain output, asserted during overcurrent or overtemperature condition on channel two", 7 ILIM (in) "External resistor used to set current-limit threshold; recommended 20 k ohm =< RILIM =< 187 k ohm.", 8 OUT2 (power) "Power-switch output for channel two", 9 OUT1 (power) "Power-switch output for channel one", 10 ~{FAULT1} (hiz) "Active-low open-drain output, asserted during overcurrent or overtemperature condition on channel one.", 11 EP (power) "Internally connected to GND; used to heat-sink the part to the circuit board traces. Connect PowerPAD to GND pin externally."

## TPS2561DRCT
designator U?
Dual Channel Precision Adjustable Current-Limited Power Switch, 0.25 to 2.5 A Current Limit, -40 to 85 degC, 10-pin SON (DRC), Green (RoHS & no Sb/Br); Manufacturer: Texas Instruments; PartNumber: TPS2561DRCT; Continuous Current(Max)(A): 2.5; Current Limit Accuracy @ 1A: +/-7.5% (2590mA min / 3005mA max); Current Limit Topology: Constant-Current; Current Limit(A): 0.25 - 2.5; Enable: Active High; Number of Switches: 2; Rating: Catalog; rDS(on) per FET(Typ)(mOhms): 45; Vin(Max)(V): 6.5; DatasheetVersion: SLVS930A; PackageVersion: revL, Sep-2011; PackageReference: DRC10-2400X1650TP; PackageDescription: 10-Pin Plastic Small Outline No-Lead, 3 x 3 x 1 mm Body, 0.5 mm Pitch, Exposed Pad; Supplier 1: Digi-Key; Supplier Part Number 1: 296-25548-2-ND; Supplier 2: Digi-Key; Supplier Part Number 2: 296-25548-1-ND; Supplier 3: Digi-Key; Supplier Part Number 3: 296-25548-6-ND; Supplier 4: Newark; Supplier Part Number 4: 60R2438; Supplier 5: Mouser; Supplier Part Number 5: 595-TPS2561DRCT; Eco-Plan: Green (RoHS & no Sb/Br); Vin(Min)(V): 2.5; Mounting Technology: Surface Mount; ComponentLink1Description: Datasheet; ComponentLink1URL: http://www.ti.com/general/docs/lit/getliterature.tsp?genericPartNumber=TPS2561&fileType=pdf
footprint DRC10-2400X1650TP (SON, 10-Leads, Body 3x3mm, Pitch 0.5mm, Thermal Pad 2.4x1.65mm, TI Recommended)
pins: 1 GND (power) "Ground connection; connect externally to PowerPAD", 2 IN (power) "Input voltage; connect a 0.1 uF or greater ceramic capacitor from IN to GND as close to the IC as possible.", 3 IN (power) "Input voltage; connect a 0.1 uF or greater ceramic capacitor from IN to GND as close to the IC as possible.", 4 EN1 (in) "Enable input, logic high turns on channel one power switch", 5 EN2 (in) "Enable input, logic high turns on channel two power switch", 6 ~{FAULT2} (hiz) "Active-low open-drain output, asserted during overcurrent or overtemperature condition on channel two", 7 ILIM (in) "External resistor used to set current-limit threshold; recommended 20 k ohm =< RILIM =< 187 k ohm.", 8 OUT2 (power) "Power-switch output for channel two", 9 OUT1 (power) "Power-switch output for channel one", 10 ~{FAULT1} (hiz) "Active-low open-drain output, asserted during overcurrent or overtemperature condition on channel one.", 11 EP (power) "Internally connected to GND; used to heat-sink the part to the circuit board traces. Connect PowerPAD to GND pin externally."

## TPS2561QDRCRQ1
designator U?
Automotive Catalog Dual Channel Precision Adjustable Current-Limited Power Switch, 0.25 to 2.5 A Current Limit, -40 to 125 degC, 10-pin SON (DRC), Green (RoHS & no Sb/Br); Manufacturer: Texas Instruments; PartNumber: TPS2561QDRCRQ1; Continuous Current(Max)(A): 2.5; Current Limit Accuracy @ 1A: +/-7.5% (2590mA min / 3005mA max); Current Limit Topology: Constant-Current; Current Limit(A): 0.25 - 2.5; Enable: Active High; Number of Switches: 2; rDS(on) per FET(Typ)(mOhms): 45; Vin(Max)(V): 6.5; DatasheetVersion: SLVSB51A; PackageVersion: revL, Sep-2011; PackageReference: DRC10-2400X1650TP; PackageDescription: 10-Pin Plastic Small Outline No-Lead, 3 x 3 x 1 mm Body, 0.5 mm Pitch, Exposed Pad; Supplier 1: Digi-Key; Supplier Part Number 1: TPS2561QDRCRQ1-ND; Supplier 2: Newark; Supplier Part Number 2: 76T8108; Supplier 3: Mouser; Supplier Part Number 3: 595-TPS2561QDRCRQ1; Eco-Plan: Green (RoHS & no Sb/Br); Rating: Automotive; Vin(Min)(V): 2.5; Mounting Technology: Surface Mount; ComponentLink1Description: Datasheet; ComponentLink1URL: http://www.ti.com/general/docs/lit/getliterature.tsp?genericPartNumber=TPS2561-Q1&fileType=pdf
footprint DRC10-2400X1650TP (SON, 10-Leads, Body 3x3mm, Pitch 0.5mm, Thermal Pad 2.4x1.65mm, TI Recommended)
pins: 1 GND (power) "Ground connection; connect externally to PowerPAD", 2 IN (power) "Input voltage; connect a 0.1 uF or greater ceramic capacitor from IN to GND as close to the IC as possible.", 3 IN (power) "Input voltage; connect a 0.1 uF or greater ceramic capacitor from IN to GND as close to the IC as possible.", 4 EN1 (in) "Enable input, logic high turns on channel one power switch", 5 EN2 (in) "Enable input, logic high turns on channel two power switch", 6 ~{FAULT2} (hiz) "Active-low open-drain output, asserted during overcurrent or overtemperature condition on channel two", 7 ILIM (in) "External resistor used to set current-limit threshold; recommended 20 k ohm =< RILIM =<187 k ohm.", 8 OUT2 (power) "Power-switch output for channel two", 9 OUT1 (power) "Power-switch output for channel one", 10 ~{FAULT1} (hiz) "Active-low open-drain output, asserted during overcurrent or overtemperature condition on channel one.", 11 EP (power) "Internally connected to GND; used to heat-sink the part to the circuit board traces.Connect PowerPAD to GND pin externally."